# Altium schematic symbol library TPS61299YBHR.SchLib: 2 symbols
Pins are listed as number, name and electrical type; pins without a type are passive.

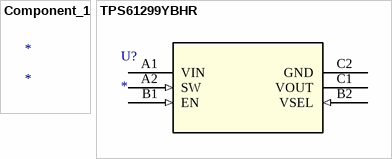
[diagram p0: symbols Component_1 to TPS61299YBHR]

## Component_1
designator *

## TPS61299YBHR
designator U?
No Description Available; Mfr_Name: Texas Instruments; Type: Power Management; RefDes: RefDes
footprint TPS61299DRLRQ1
pins: A1 VIN (power), A2 SW (in), B1 EN (in), B2 VSEL (in), C1 VOUT (power), C2 GND (power)